# EAGLE library part 52?-11 (library con-molex)
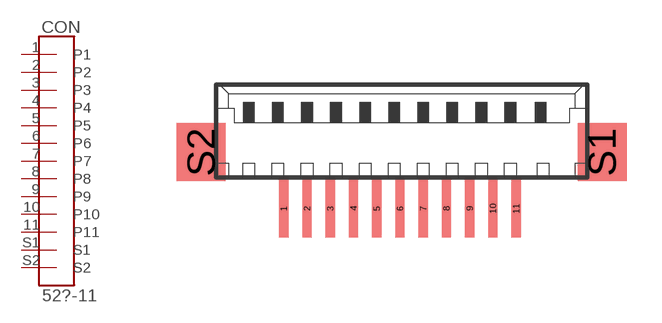
[diagram p11: symbol with the pads of 52207-11; footprint 52207-11]

Designator prefix CON

## 52-11  [52207-11]
1  P1
2  P2
3  P3
4  P4
5  P5
6  P6
7  P7
8  P8
9  P9
10  P10
11  P11
S1  S1
S2  S2

## Footprint 52207-11 (pad centres in mm)
smd 0.4 x 2.5: 1 -4.75,-2.7; 2 -3.75,-2.7; 3 -2.75,-2.7; 4 -1.75,-2.7; 5 -0.75,-2.7; 6 0.25,-2.7; 7 1.25,-2.7; 8 2.25,-2.7; 9 3.25,-2.7; 10 4.25,-2.7; 11 5.25,-2.7
smd 2.1 x 2.5: S1 8.95,-0.275; S2 -8.3,-0.275